# Altium schematic symbol library Microphone.SchLib: 1 symbol
Pins are listed as number, name and electrical type; pins without a type are passive.

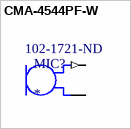
[diagram p0: symbol CMA-4544PF-W]

## CMA-4544PF-W
designator MIC?  Supplier Part Number 1: 102-1721-ND
9.7 mm, Omnidirectional, PCB Mount, 3.0 Vdc, Electret Condenser Microphone; MF: CUI Devices; MP: CMA-4544PF-W; CUI_purchase_URL: https://www.cuidevices.com/product/audio/microphones/electret-condenser-microphones/cma-4544pf-w?utm_source=snapeda.com&utm_medium=referral&utm_campaign=snapedaBOM; Price: None; SnapEDA_Link: https://www.snapeda.com/parts/CMA-4544PF-W/CUI%20Devices/view-part/215068/?ref=snap; Package: 6-DIP-6 CUI; Availability: Unavailable; Value: *; Supplier 1: Digi-Key
footprint MIC_CMA-4544PF-W
pins: 1 OUT (out), 2 GND (power)